# Altium schematic symbol library CNY65B.SchLib: 1 symbol
Pins are listed as number, name and electrical type; pins without a type are passive.

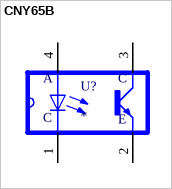
[diagram p0: symbol CNY65B]

## CNY65B
designator U?
MP: CNY65B; Package: None; Price: None; Value: *; Availability: Unavailable
footprint DIP762W50P1524L1780H610Q4
pins: 1 C, 2 E, 3 C`, 4 A